# Altium footprint library SYSPCB_03.PCBLIB: 98 footprints (part 1 of 7)
Each footprint in its own frame and in the unit in brackets; x right, y up, seen from the top. Pads: shape width x height; smd on the part's side, far side on the other; paste and mask are expansions set on the pad; w line width, h text height; cw(c..) or ccw(c..) is an arc to the next point about the centre after c.
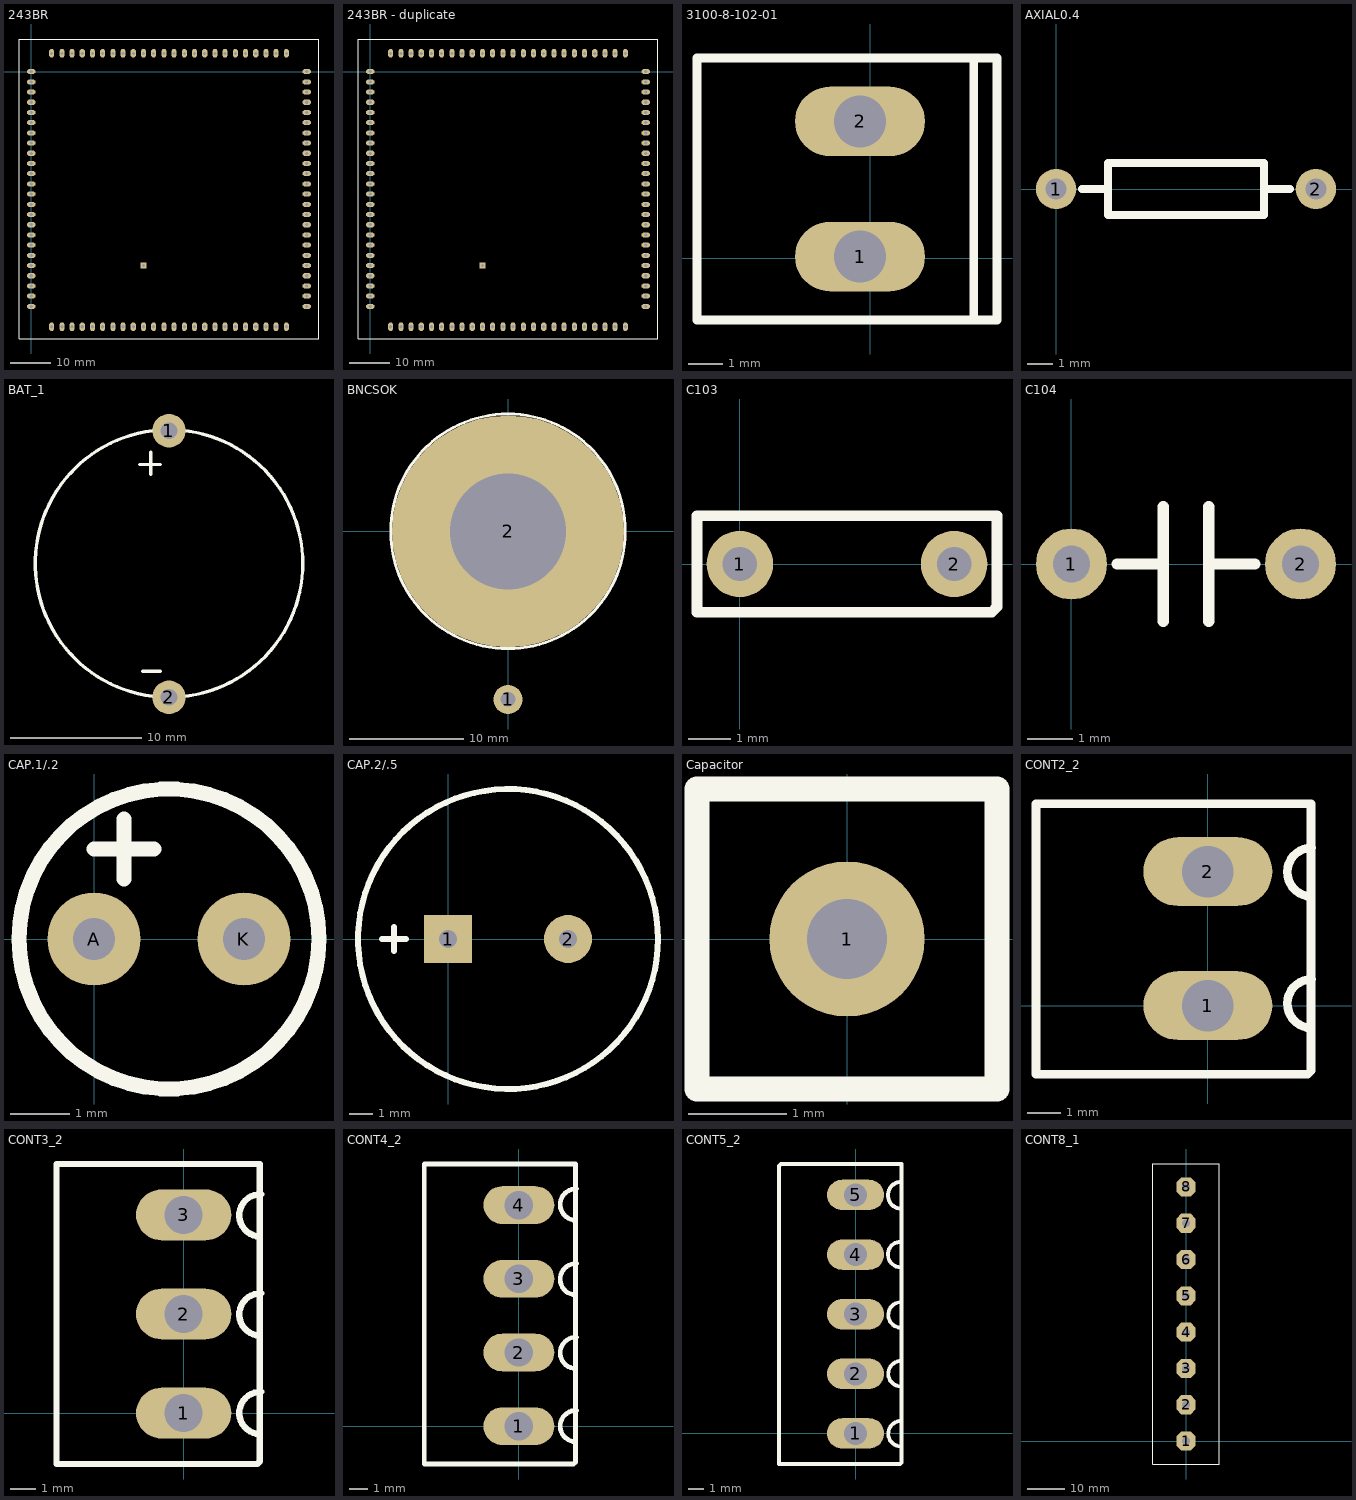
[diagram p0: the footprints below, top view; thin cyan lines are the x and y axes]

## 243BR [mil]
pads (97):
  rect 62x62 hole 32: 0(1100,-1900)
  oct 80x50 hole 30: 1(0,0) 2(0,-100) 3(0,-200) 4(0,-300) 5(0,-400) 6(0,-500) 7(0,-600) 8(0,-700) 9(0,-800) 10(0,-900) 11(0,-1000) 12(0,-1100) 13(0,-1200) 14(0,-1300) 15(0,-1400) 16(0,-1500) 17(0,-1600) 18(0,-1700) 19(0,-1800) 20(0,-1900) 21(0,-2000) 22(0,-2100) 23(0,-2200) 24(0,-2300) 49(2700,-2300) 50(2700,-2200) 51(2700,-2100) 52(2700,-2000) 53(2700,-1900) 54(2700,-1800) 55(2700,-1700) 56(2700,-1600) 57(2700,-1500) 58(2700,-1400) 59(2700,-1300) 60(2700,-1200) 61(2700,-1100) 62(2700,-1000) 63(2700,-900) 64(2700,-800) 65(2700,-700) 66(2700,-600) 67(2700,-500) 68(2700,-400) 69(2700,-300) 70(2700,-200) 71(2700,-100) 72(2700,0)
  oct 50x80 hole 30: 25(200,-2500) 26(300,-2500) 27(400,-2500) 28(500,-2500) 29(600,-2500) 30(700,-2500) 31(800,-2500) 32(900,-2500) 33(1000,-2500) 34(1100,-2500) 35(1200,-2500) 36(1300,-2500) 37(1400,-2500) 38(1500,-2500) 39(1600,-2500) 40(1700,-2500) 41(1800,-2500) 42(1900,-2500) 43(2000,-2500) 44(2100,-2500) 45(2200,-2500) 46(2300,-2500) 47(2400,-2500) 48(2500,-2500) 73(2500,180) 74(2400,180) 75(2300,180) 76(2200,180) 77(2100,180) 78(2000,180) 79(1900,180) 80(1800,180) 81(1700,180) 82(1600,180) 83(1500,180) 84(1400,180) 85(1300,180) 86(1200,180) 87(1100,180) 88(1000,180) 89(900,180) 90(800,180) 91(700,180) 92(600,180) 93(500,180) 94(400,180) 95(300,180) 96(200,180)
TopOverlay:
  lines w10: -120,-2620 -120,320 2820,320 2820,-2620 -120,-2620

## 243BR - duplicate [mil]
pads (97):
  rect 62x62 hole 32: 0(1100,-1900)
  oct 80x50 hole 30: 1(0,0) 2(0,-100) 3(0,-200) 4(0,-300) 5(0,-400) 6(0,-500) 7(0,-600) 8(0,-700) 9(0,-800) 10(0,-900) 11(0,-1000) 12(0,-1100) 13(0,-1200) 14(0,-1300) 15(0,-1400) 16(0,-1500) 17(0,-1600) 18(0,-1700) 19(0,-1800) 20(0,-1900) 21(0,-2000) 22(0,-2100) 23(0,-2200) 24(0,-2300) 49(2700,-2300) 50(2700,-2200) 51(2700,-2100) 52(2700,-2000) 53(2700,-1900) 54(2700,-1800) 55(2700,-1700) 56(2700,-1600) 57(2700,-1500) 58(2700,-1400) 59(2700,-1300) 60(2700,-1200) 61(2700,-1100) 62(2700,-1000) 63(2700,-900) 64(2700,-800) 65(2700,-700) 66(2700,-600) 67(2700,-500) 68(2700,-400) 69(2700,-300) 70(2700,-200) 71(2700,-100) 72(2700,0)
  oct 50x80 hole 30: 25(200,-2500) 26(300,-2500) 27(400,-2500) 28(500,-2500) 29(600,-2500) 30(700,-2500) 31(800,-2500) 32(900,-2500) 33(1000,-2500) 34(1100,-2500) 35(1200,-2500) 36(1300,-2500) 37(1400,-2500) 38(1500,-2500) 39(1600,-2500) 40(1700,-2500) 41(1800,-2500) 42(1900,-2500) 43(2000,-2500) 44(2100,-2500) 45(2200,-2500) 46(2300,-2500) 47(2400,-2500) 48(2500,-2500) 73(2500,180) 74(2400,180) 75(2300,180) 76(2200,180) 77(2100,180) 78(2000,180) 79(1900,180) 80(1800,180) 81(1700,180) 82(1600,180) 83(1500,180) 84(1400,180) 85(1300,180) 86(1200,180) 87(1100,180) 88(1000,180) 89(900,180) 90(800,180) 91(700,180) 92(600,180) 93(500,180) 94(400,180) 95(300,180) 96(200,180)
TopOverlay:
  lines w10: -120,-2620 2820,-2620 2820,320 -120,320 -120,-2620

## 3100-8-102-01 [mil]
pads (2):
  oval 150x80 hole 60: 1(-12,2) 2(-12,158)
TopOverlay:
  lines w10: 119,-70 119,231 ; -200,-71 -200,0 -200,231 146,231 146,-71 -200,-71

## AXIAL0.4 [mil]
pads (2):
  round 62 hole 32: 1(0.04,0.04) 2(400.04,0.04)
TopOverlay:
  lines w12: 40.04,0.04 80.04,0.04 ; 320.04,0.04 360.04,0.04 ; 80.04,-39.96 320.04,-39.96 320.04,40.04 80.04,40.04 80.04,-39.96

## BAT_1 [mil]
pads (2):
  round 100 hole 50: 1(2000,-1603) 2(2000,-2400)
TopOverlay:
  circle w10: c2000,-2000 r400
  lines w10: 1913,-1704 1968,-1704 1974,-1704 ; 1922,-2322 1974,-2322 ; 1945,-1733 1945,-1667

## BNCSOK [mil]
pads (2):
  round 100 hole 50: 1(0,-580)
  round 800 hole 400: 2(0,0)
TopOverlay:
  circle w10: c0,0 r404.48

## C103 [mil]
pads (2):
  round 62 hole 32: 1(0,0) 2(200,0)
TopOverlay:
  lines w10: -40,-45 -40,0 -40,45 240,45 240,-40 235,-45 -40,-45

## C104 [mil]
pads (2):
  round 62 hole 32: 1(0,0) 2(200,0)
TopOverlay:
  lines w10: 40,0 80,0 ; 80,-50 80,50 ; 120,-50 120,50 ; 120,0 160,0

## CAP.1/.2 [mil]
pads (2):
  round 62 hole 28: A(0,0) K(100,0)
TopOverlay:
  circle w10: c50,0 r100
  lines w10: 0,60 40,60 ; 20,40 20,80

## CAP.2/.5 [mil] "ESMG500ELL102MK25S"
height 1000
pads (2):
  rect 80x80 hole 30: 1(0,0)
  round 80 hole 30: 2(200,0)
TopOverlay:
  circle w10: c100,0 r250
  lines w10: -110,0 -70,0 ; -90,-20 -90,20

## Capacitor [mil]
pads (1):
  round 62 hole 32: 1(0,0)
TopOverlay:
  lines w10: -60,-60 60,-60 60,60 -40,60 -60,60 -60,-60

## CONT2_2 [mil]
pads (2):
  oval 150x80 hole 60: 1(0,0) 2(0,156)
TopOverlay:
  lines w10: 120,-26 cw(c120.77,2.31) 120.77,30.63 ; 120,127 cw(c120.77,155.31) 120.77,183.63 ; 120,230 120,235 ; 120,235 -200,235 -200,0 -200,-80 116,-80 120,-76 120,-1 120,235

## CONT3_2 [mil]
pads (3):
  oval 150x80 hole 60: 1(0,0) 2(0,156) 3(0,312)
TopOverlay:
  lines w10: 120,-33 cw(c120.85,0.23) 121.92,33.45 ; 120,122 cw(c120.85,155.23) 121.92,188.45 ; 120,278 cw(c120.85,311.23) 121.92,344.45 ; -200,-80 -200,0 -200,392 120,392 120,-1 120,-76 116,-80 -200,-80

## CONT4_2 [mil]
pads (4):
  oval 150x80 hole 60: 1(0,0) 2(0,156) 3(0,312) 4(0,468)
TopOverlay:
  lines w10: -200,545 -200,555 ; 120,-33 cw(c120.85,0.23) 121.92,33.45 ; 120,122 cw(c120.85,155.23) 121.92,188.45 ; 120,278 cw(c120.85,311.23) 121.92,344.45 ; 120,436 cw(c120.85,469.23) 121.92,502.45 ; 120,545 120,555 ; -200,555 -200,526 -200,0 -200,-80 116,-80 120,-76 120,-1 120,474 120,555 ; -200,555 120,555

## CONT5_2 [mil]
pads (5):
  oval 150x80 hole 60: 1(0,0) 2(0,156) 3(0,312) 4(0,468) 5(0,624)
TopOverlay:
  lines w10: -200,545 -200,555 ; 117,435 cw(c117.85,468.23) 118.92,501.45 ; 118,-34 cw(c118.85,-0.77) 119.92,32.45 ; 118,123 cw(c118.85,156.23) 119.92,189.45 ; 118,277 cw(c118.85,310.23) 119.92,343.45 ; 120,545 120,555 ; 120,588 cw(c120,623.23) 120,658.46 ; 120,700 120,555 ; 120,705 -195,705 -200,700 -200,555 ; -200,555 -200,526 -200,0 -200,-80 116,-80 120,-76 120,-1 120,474 120,555

## CONT8_1 [mil]
pads (8):
  oct 200x200 hole 80: 1(0,0) 2(0,380) 3(0,760) 4(0,1140) 5(0,1520) 6(0,1900) 7(0,2280) 8(0,2660)
TopOverlay:
  lines w10: -350,0 -350,450 -350,2900 190,2900 350,2900 350,440 350,0 350,-240 -190,-240 ; -350,10 -350,-240 -180,-240